# Altium schematic symbol library Switches.SchLib: 5 symbols
Pins are listed as number, name and electrical type; pins without a type are passive.

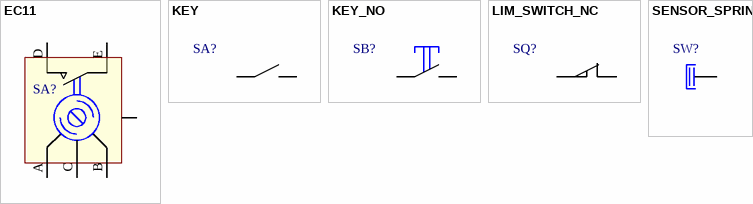
[diagram p0: symbols EC11 to SENSOR_SPRING]

## EC11
designator SA?, comment EC11-25F  (value not drawn)
11mm Size Metal Shaft Type EC11 Series
footprint EC11-25F
footprint EC11-25F_SMD
footprint EC11-20F
footprint EC11-20F_SMD
footprint EC11-20F_UNI
pins: A, B, C, D, E, GND

## KEY
designator SA?
pins: 1, 2

## KEY_NO
designator SB?
pins: 1, 2

## LIM_SWITCH_NC
designator SQ?
footprint SW-520D (Roll Ball Switch)
footprint SW-520D_1 (Roll Ball Switch)
pins: 1, 2

## SENSOR_SPRING
designator SW?
footprint A-92 (A-92 Sensor Spring)
pins: 1